# Altium footprint library Connector_Samtec_MicroMate.PcbLib: 76 footprints (part 2 of 5)
Each footprint in its own frame and in the unit in brackets; x right, y up, seen from the top. Pads: shape width x height; smd on the part's side, far side on the other; paste and mask are expansions set on the pad; w line width, h text height; cw(c..) or ccw(c..) is an arc to the next point about the centre after c.
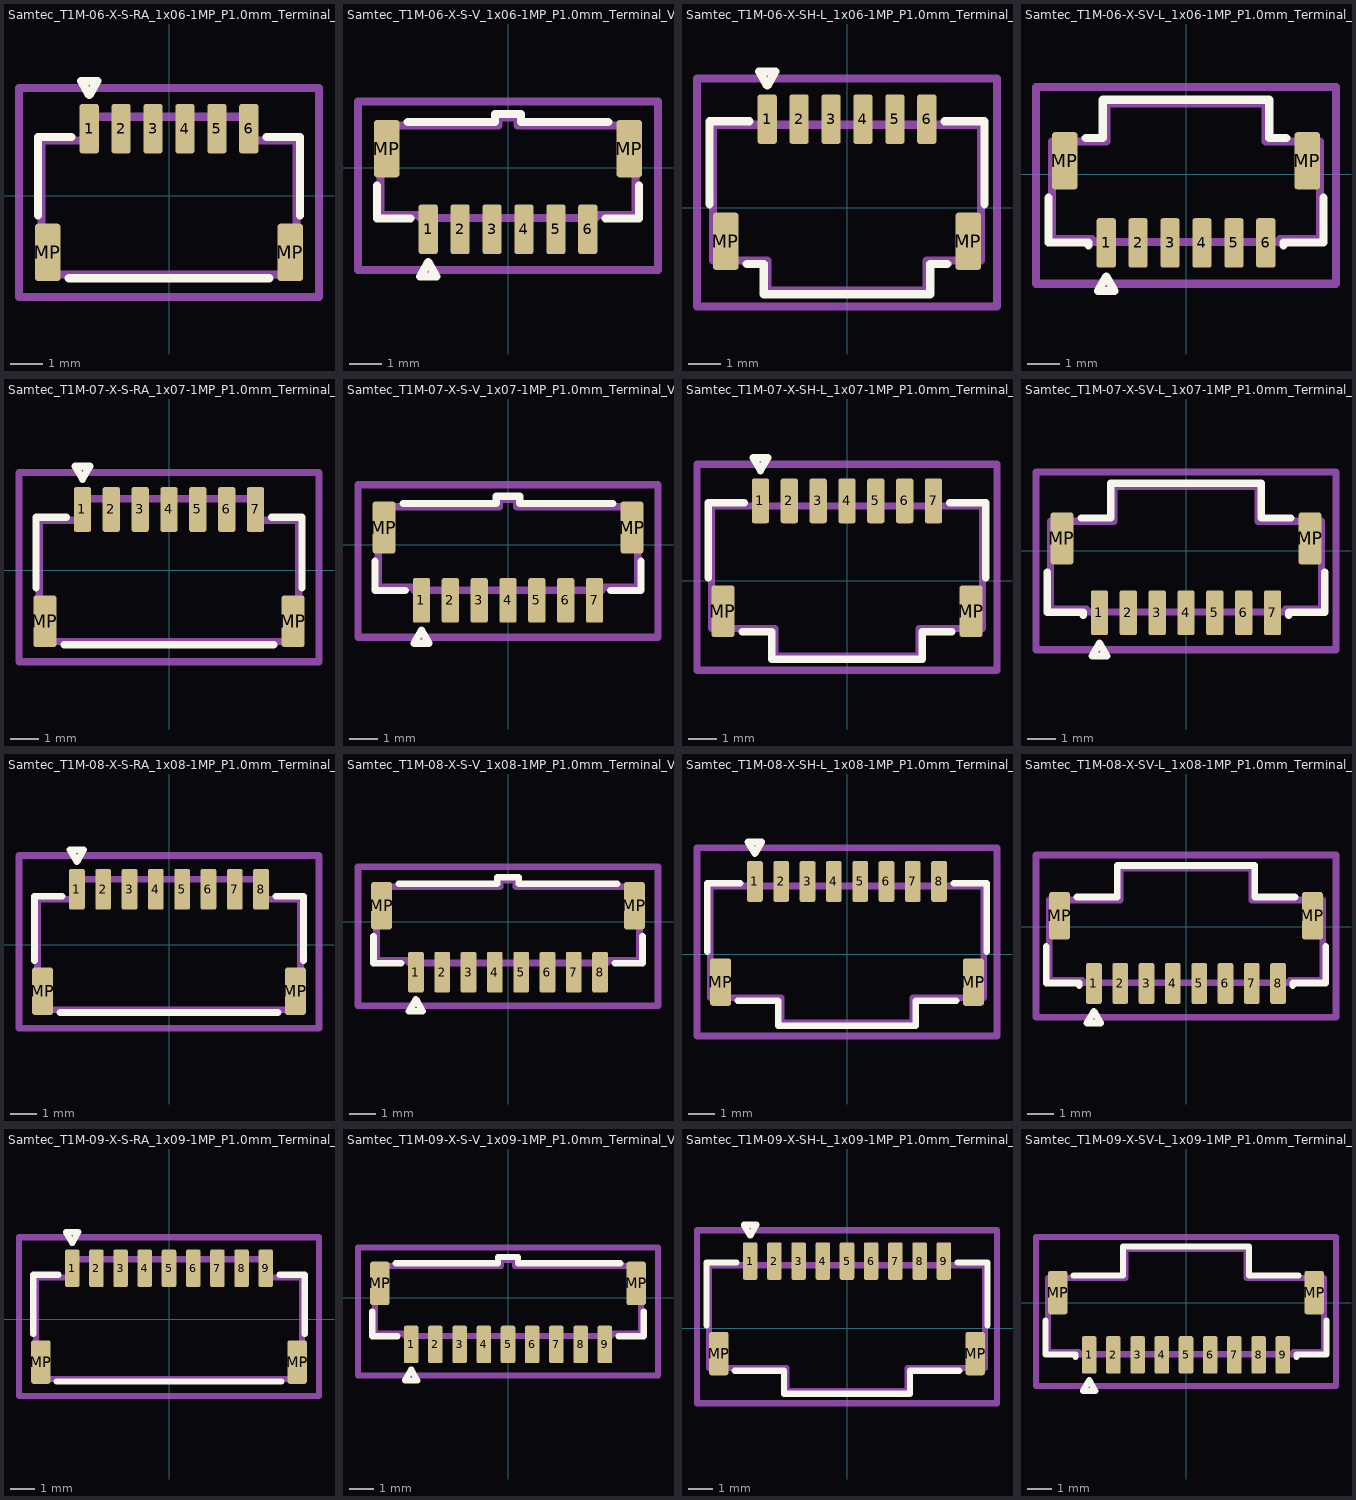
[diagram p1: the footprints below, top view; thin cyan lines are the x and y axes]

## Samtec_T1M-06-X-S-RA_1x06-1MP_P1.0mm_Terminal_Horizontal [mm]
pads (8):
  rrect25% 0.6x1.55 smd: 1(-2.5,2.1) 2(-1.5,2.1) 3(-0.5,2.1) 4(0.5,2.1) 5(1.5,2.1) 6(2.5,2.1)
  rrect25% 0.8x1.8 smd: MP(-3.8,-1.775) MP(3.8,-1.775)
F.SilkS:
  lines w0.254: -4.11,-0.615 -4.11,1.835 -3.06,1.835 ; -3.14,-2.585 3.14,-2.585 ; 3.06,1.835 4.11,1.835 4.11,-0.615 ; -2.76,3.6 -2.24,3.6 -2.5,3.15 -2.76,3.6
Top Assembly:
  lines w0.254: -4,-2.475 4,-2.475 4,1.725 2.6,1.725 2.6,2.475 -2.6,2.475 -2.6,1.725 -4,1.725 -4,-2.475
  text "'.Designator'" at -4.047,-0.84 h1
Top Courtyard:
  lines w0.254: -4.7,-3.18 4.7,-3.18 4.7,3.38 -4.7,3.38 -4.7,-3.18
Top Designator:
  text ".Designator" at -7.618,-0.298 h1.52

## Samtec_T1M-06-X-S-V_1x06-1MP_P1.0mm_Terminal_Vertical [mm]
pads (8):
  rrect25% 0.6x1.55 smd: 1(-2.5,-1.925) 2(-1.5,-1.925) 3(-0.5,-1.925) 4(0.5,-1.925) 5(1.5,-1.925) 6(2.5,-1.925)
  rrect25% 0.8x1.8 smd: MP(-3.8,0.6) MP(3.8,0.6)
F.SilkS:
  lines w0.254: -4.11,-0.56 -4.11,-1.585 -3.06,-1.585 ; -3.14,1.435 -0.41,1.435 -0.41,1.685 0.41,1.685 0.41,1.435 3.14,1.435 ; 3.06,-1.585 4.11,-1.585 4.11,-0.56 ; -2.76,-3.41 -2.24,-3.41 -2.5,-2.96 -2.76,-3.41
Top Assembly:
  lines w0.254: -4,-1.475 -2.75,-1.475 -2.75,-1.575 2.75,-1.575 2.75,-1.475 4,-1.475 4,1.325 0.3,1.325 0.3,1.575 -0.3,1.575 -0.3,1.325 -4,1.325 -4,-1.475
  text "'.Designator'" at -4.047,-0.84 h1
Top Courtyard:
  lines w0.254: -4.7,-3.2 4.7,-3.2 4.7,2.08 -4.7,2.08 -4.7,-3.2
Top Designator:
  text ".Designator" at -7.618,-1.173 h1.52

## Samtec_T1M-06-X-SH-L_1x06-1MP_P1.0mm_Terminal_Horizontal_Latch [mm]
pads (8):
  rrect25% 0.6x1.55 smd: 1(-2.5,2.775) 2(-1.5,2.775) 3(-0.5,2.775) 4(0.5,2.775) 5(1.5,2.775) 6(2.5,2.775)
  rrect25% 0.8x1.8 smd: MP(-3.8,-1.05) MP(3.8,-1.05)
F.SilkS:
  lines w0.254: -4.31,0.11 -4.31,2.71 -3.06,2.71 ; -3.14,-1.76 -2.61,-1.76 -2.61,-2.71 2.61,-2.71 2.61,-1.76 3.14,-1.76 ; 3.06,2.71 4.31,2.71 4.31,0.11 ; -2.76,4.275 -2.24,4.275 -2.5,3.825 -2.76,4.275
Top Assembly:
  lines w0.254: -4.2,-1.65 -2.5,-1.65 -2.5,-2.6 2.5,-2.6 2.5,-1.65 4.2,-1.65 4.2,2.6 -4.2,2.6 -4.2,-1.65
  text "'.Designator'" at -4.047,-0.84 h1
Top Courtyard:
  lines w0.254: -4.7,-3.1 4.7,-3.1 4.7,4.05 -4.7,4.05 -4.7,-3.1
Top Designator:
  text ".Designator" at -7.618,0.08 h1.52

## Samtec_T1M-06-X-SV-L_1x06-1MP_P1.0mm_Terminal_Vertical_Latch [mm]
pads (8):
  rrect25% 0.6x1.55 smd: 1(-2.5,-2.15) 2(-1.5,-2.15) 3(-0.5,-2.15) 4(0.5,-2.15) 5(1.5,-2.15) 6(2.5,-2.15)
  rrect25% 0.8x1.8 smd: MP(-3.8,0.425) MP(3.8,0.425)
F.SilkS:
  lines w0.254: -4.31,-0.735 -4.31,-2.135 -3.06,-2.135 -3.06,-2.235 ; -3.14,1.135 -2.61,1.135 -2.61,2.335 2.61,2.335 2.61,1.135 3.14,1.135 ; 3.06,-2.235 3.06,-2.135 4.31,-2.135 4.31,-0.735 ; -2.76,-3.65 -2.24,-3.65 -2.5,-3.2 -2.76,-3.65
Top Assembly:
  lines w0.254: -4.2,-2.025 -2.95,-2.025 -2.95,-2.125 2.95,-2.125 2.95,-2.025 4.2,-2.025 4.2,1.025 2.5,1.025 2.5,2.225 -2.5,2.225 -2.5,1.025 -4.2,1.025 -4.2,-2.025
  text "'.Designator'" at -4.047,-0.84 h1
Top Courtyard:
  lines w0.254: -4.7,-3.43 4.7,-3.43 4.7,2.73 -4.7,2.73 -4.7,-3.43
Top Designator:
  text ".Designator" at -7.618,-0.968 h1.52

## Samtec_T1M-07-X-S-RA_1x07-1MP_P1.0mm_Terminal_Horizontal [mm]
pads (9):
  rrect25% 0.6x1.55 smd: 1(-3,2.1) 2(-2,2.1) 3(-1,2.1) 4(0,2.1) 5(1,2.1) 6(2,2.1) 7(3,2.1)
  rrect25% 0.8x1.8 smd: MP(-4.3,-1.775) MP(4.3,-1.775)
F.SilkS:
  lines w0.254: -4.61,-0.615 -4.61,1.835 -3.56,1.835 ; -3.64,-2.585 3.64,-2.585 ; 3.56,1.835 4.61,1.835 4.61,-0.615 ; -3.26,3.6 -2.74,3.6 -3,3.15 -3.26,3.6
Top Assembly:
  lines w0.254: -4.5,-2.475 4.5,-2.475 4.5,1.725 3.1,1.725 3.1,2.475 -3.1,2.475 -3.1,1.725 -4.5,1.725 -4.5,-2.475
  text "'.Designator'" at -4.047,-0.84 h1
Top Courtyard:
  lines w0.254: -5.2,-3.18 5.2,-3.18 5.2,3.38 -5.2,3.38 -5.2,-3.18
Top Designator:
  text ".Designator" at -7.618,-0.298 h1.52

## Samtec_T1M-07-X-S-V_1x07-1MP_P1.0mm_Terminal_Vertical [mm]
pads (9):
  rrect25% 0.6x1.55 smd: 1(-3,-1.925) 2(-2,-1.925) 3(-1,-1.925) 4(0,-1.925) 5(1,-1.925) 6(2,-1.925) 7(3,-1.925)
  rrect25% 0.8x1.8 smd: MP(-4.3,0.6) MP(4.3,0.6)
F.SilkS:
  lines w0.254: -4.61,-0.56 -4.61,-1.585 -3.56,-1.585 ; -3.64,1.435 -0.41,1.435 -0.41,1.685 0.41,1.685 0.41,1.435 3.64,1.435 ; 3.56,-1.585 4.61,-1.585 4.61,-0.56 ; -3.26,-3.41 -2.74,-3.41 -3,-2.96 -3.26,-3.41
Top Assembly:
  lines w0.254: -4.5,-1.475 -3.25,-1.475 -3.25,-1.575 3.25,-1.575 3.25,-1.475 4.5,-1.475 4.5,1.325 0.3,1.325 0.3,1.575 -0.3,1.575 -0.3,1.325 -4.5,1.325 -4.5,-1.475
  text "'.Designator'" at -4.047,-0.84 h1
Top Courtyard:
  lines w0.254: -5.2,-3.2 5.2,-3.2 5.2,2.08 -5.2,2.08 -5.2,-3.2
Top Designator:
  text ".Designator" at -7.618,-1.173 h1.52

## Samtec_T1M-07-X-SH-L_1x07-1MP_P1.0mm_Terminal_Horizontal_Latch [mm]
pads (9):
  rrect25% 0.6x1.55 smd: 1(-3,2.775) 2(-2,2.775) 3(-1,2.775) 4(0,2.775) 5(1,2.775) 6(2,2.775) 7(3,2.775)
  rrect25% 0.8x1.8 smd: MP(-4.3,-1.05) MP(4.3,-1.05)
F.SilkS:
  lines w0.254: -4.81,0.11 -4.81,2.71 -3.56,2.71 ; -3.64,-1.76 -2.61,-1.76 -2.61,-2.71 2.61,-2.71 2.61,-1.76 3.64,-1.76 ; 3.56,2.71 4.81,2.71 4.81,0.11 ; -3.26,4.275 -2.74,4.275 -3,3.825 -3.26,4.275
Top Assembly:
  lines w0.254: -4.7,-1.65 -2.5,-1.65 -2.5,-2.6 2.5,-2.6 2.5,-1.65 4.7,-1.65 4.7,2.6 -4.7,2.6 -4.7,-1.65
  text "'.Designator'" at -4.047,-0.84 h1
Top Courtyard:
  lines w0.254: -5.2,-3.1 5.2,-3.1 5.2,4.05 -5.2,4.05 -5.2,-3.1
Top Designator:
  text ".Designator" at -7.618,0.08 h1.52

## Samtec_T1M-07-X-SV-L_1x07-1MP_P1.0mm_Terminal_Vertical_Latch [mm]
pads (9):
  rrect25% 0.6x1.55 smd: 1(-3,-2.15) 2(-2,-2.15) 3(-1,-2.15) 4(0,-2.15) 5(1,-2.15) 6(2,-2.15) 7(3,-2.15)
  rrect25% 0.8x1.8 smd: MP(-4.3,0.425) MP(4.3,0.425)
F.SilkS:
  lines w0.254: -4.81,-0.735 -4.81,-2.135 -3.56,-2.135 -3.56,-2.235 ; -3.64,1.135 -2.61,1.135 -2.61,2.335 2.61,2.335 2.61,1.135 3.64,1.135 ; 3.56,-2.235 3.56,-2.135 4.81,-2.135 4.81,-0.735 ; -3.26,-3.65 -2.74,-3.65 -3,-3.2 -3.26,-3.65
Top Assembly:
  lines w0.254: -4.7,-2.025 -3.45,-2.025 -3.45,-2.125 3.45,-2.125 3.45,-2.025 4.7,-2.025 4.7,1.025 2.5,1.025 2.5,2.225 -2.5,2.225 -2.5,1.025 -4.7,1.025 -4.7,-2.025
  text "'.Designator'" at -4.047,-0.84 h1
Top Courtyard:
  lines w0.254: -5.2,-3.43 5.2,-3.43 5.2,2.73 -5.2,2.73 -5.2,-3.43
Top Designator:
  text ".Designator" at -7.618,-0.968 h1.52

## Samtec_T1M-08-X-S-RA_1x08-1MP_P1.0mm_Terminal_Horizontal [mm]
pads (10):
  rrect25% 0.6x1.55 smd: 1(-3.5,2.1) 2(-2.5,2.1) 3(-1.5,2.1) 4(-0.5,2.1) 5(0.5,2.1) 6(1.5,2.1) 7(2.5,2.1) 8(3.5,2.1)
  rrect25% 0.8x1.8 smd: MP(-4.8,-1.775) MP(4.8,-1.775)
F.SilkS:
  lines w0.254: -5.11,-0.615 -5.11,1.835 -4.06,1.835 ; -4.14,-2.585 4.14,-2.585 ; 4.06,1.835 5.11,1.835 5.11,-0.615 ; -3.76,3.6 -3.24,3.6 -3.5,3.15 -3.76,3.6
Top Assembly:
  lines w0.254: -5,-2.475 5,-2.475 5,1.725 3.6,1.725 3.6,2.475 -3.6,2.475 -3.6,1.725 -5,1.725 -5,-2.475
  text "'.Designator'" at -4.047,-0.84 h1
Top Courtyard:
  lines w0.254: -5.7,-3.18 5.7,-3.18 5.7,3.38 -5.7,3.38 -5.7,-3.18
Top Designator:
  text ".Designator" at -7.618,-0.298 h1.52

## Samtec_T1M-08-X-S-V_1x08-1MP_P1.0mm_Terminal_Vertical [mm]
pads (10):
  rrect25% 0.6x1.55 smd: 1(-3.5,-1.925) 2(-2.5,-1.925) 3(-1.5,-1.925) 4(-0.5,-1.925) 5(0.5,-1.925) 6(1.5,-1.925) 7(2.5,-1.925) 8(3.5,-1.925)
  rrect25% 0.8x1.8 smd: MP(-4.8,0.6) MP(4.8,0.6)
F.SilkS:
  lines w0.254: -5.11,-0.56 -5.11,-1.585 -4.06,-1.585 ; -4.14,1.435 -0.41,1.435 -0.41,1.685 0.41,1.685 0.41,1.435 4.14,1.435 ; 4.06,-1.585 5.11,-1.585 5.11,-0.56 ; -3.76,-3.41 -3.24,-3.41 -3.5,-2.96 -3.76,-3.41
Top Assembly:
  lines w0.254: -5,-1.475 -3.75,-1.475 -3.75,-1.575 3.75,-1.575 3.75,-1.475 5,-1.475 5,1.325 0.3,1.325 0.3,1.575 -0.3,1.575 -0.3,1.325 -5,1.325 -5,-1.475
  text "'.Designator'" at -4.047,-0.84 h1
Top Courtyard:
  lines w0.254: -5.7,-3.2 5.7,-3.2 5.7,2.08 -5.7,2.08 -5.7,-3.2
Top Designator:
  text ".Designator" at -7.618,-1.173 h1.52

## Samtec_T1M-08-X-SH-L_1x08-1MP_P1.0mm_Terminal_Horizontal_Latch [mm]
pads (10):
  rrect25% 0.6x1.55 smd: 1(-3.5,2.775) 2(-2.5,2.775) 3(-1.5,2.775) 4(-0.5,2.775) 5(0.5,2.775) 6(1.5,2.775) 7(2.5,2.775) 8(3.5,2.775)
  rrect25% 0.8x1.8 smd: MP(-4.8,-1.05) MP(4.8,-1.05)
F.SilkS:
  lines w0.254: -5.31,0.11 -5.31,2.71 -4.06,2.71 ; -4.14,-1.76 -2.61,-1.76 -2.61,-2.71 2.61,-2.71 2.61,-1.76 4.14,-1.76 ; 4.06,2.71 5.31,2.71 5.31,0.11 ; -3.76,4.275 -3.24,4.275 -3.5,3.825 -3.76,4.275
Top Assembly:
  lines w0.254: -5.2,-1.65 -2.5,-1.65 -2.5,-2.6 2.5,-2.6 2.5,-1.65 5.2,-1.65 5.2,2.6 -5.2,2.6 -5.2,-1.65
  text "'.Designator'" at -4.047,-0.84 h1
Top Courtyard:
  lines w0.254: -5.7,-3.1 5.7,-3.1 5.7,4.05 -5.7,4.05 -5.7,-3.1
Top Designator:
  text ".Designator" at -7.618,0.08 h1.52

## Samtec_T1M-08-X-SV-L_1x08-1MP_P1.0mm_Terminal_Vertical_Latch [mm]
pads (10):
  rrect25% 0.6x1.55 smd: 1(-3.5,-2.15) 2(-2.5,-2.15) 3(-1.5,-2.15) 4(-0.5,-2.15) 5(0.5,-2.15) 6(1.5,-2.15) 7(2.5,-2.15) 8(3.5,-2.15)
  rrect25% 0.8x1.8 smd: MP(-4.8,0.425) MP(4.8,0.425)
F.SilkS:
  lines w0.254: -5.31,-0.735 -5.31,-2.135 -4.06,-2.135 -4.06,-2.235 ; -4.14,1.135 -2.61,1.135 -2.61,2.335 2.61,2.335 2.61,1.135 4.14,1.135 ; 4.06,-2.235 4.06,-2.135 5.31,-2.135 5.31,-0.735 ; -3.76,-3.65 -3.24,-3.65 -3.5,-3.2 -3.76,-3.65
Top Assembly:
  lines w0.254: -5.2,-2.025 -3.95,-2.025 -3.95,-2.125 3.95,-2.125 3.95,-2.025 5.2,-2.025 5.2,1.025 2.5,1.025 2.5,2.225 -2.5,2.225 -2.5,1.025 -5.2,1.025 -5.2,-2.025
  text "'.Designator'" at -4.047,-0.84 h1
Top Courtyard:
  lines w0.254: -5.7,-3.43 5.7,-3.43 5.7,2.73 -5.7,2.73 -5.7,-3.43
Top Designator:
  text ".Designator" at -7.618,-0.968 h1.52

## Samtec_T1M-09-X-S-RA_1x09-1MP_P1.0mm_Terminal_Horizontal [mm]
pads (11):
  rrect25% 0.6x1.55 smd: 1(-4,2.1) 2(-3,2.1) 3(-2,2.1) 4(-1,2.1) 5(0,2.1) 6(1,2.1) 7(2,2.1) 8(3,2.1) 9(4,2.1)
  rrect25% 0.8x1.8 smd: MP(-5.3,-1.775) MP(5.3,-1.775)
F.SilkS:
  lines w0.254: -5.61,-0.615 -5.61,1.835 -4.56,1.835 ; -4.64,-2.585 4.64,-2.585 ; 4.56,1.835 5.61,1.835 5.61,-0.615 ; -4.26,3.6 -3.74,3.6 -4,3.15 -4.26,3.6
Top Assembly:
  lines w0.254: -5.5,-2.475 5.5,-2.475 5.5,1.725 4.1,1.725 4.1,2.475 -4.1,2.475 -4.1,1.725 -5.5,1.725 -5.5,-2.475
  text "'.Designator'" at -4.047,-0.84 h1
Top Courtyard:
  lines w0.254: -6.2,-3.18 6.2,-3.18 6.2,3.38 -6.2,3.38 -6.2,-3.18
Top Designator:
  text ".Designator" at -7.618,-0.298 h1.52

## Samtec_T1M-09-X-S-V_1x09-1MP_P1.0mm_Terminal_Vertical [mm]
pads (11):
  rrect25% 0.6x1.55 smd: 1(-4,-1.925) 2(-3,-1.925) 3(-2,-1.925) 4(-1,-1.925) 5(0,-1.925) 6(1,-1.925) 7(2,-1.925) 8(3,-1.925) 9(4,-1.925)
  rrect25% 0.8x1.8 smd: MP(-5.3,0.6) MP(5.3,0.6)
F.SilkS:
  lines w0.254: -5.61,-0.56 -5.61,-1.585 -4.56,-1.585 ; -4.64,1.435 -0.41,1.435 -0.41,1.685 0.41,1.685 0.41,1.435 4.64,1.435 ; 4.56,-1.585 5.61,-1.585 5.61,-0.56 ; -4.26,-3.41 -3.74,-3.41 -4,-2.96 -4.26,-3.41
Top Assembly:
  lines w0.254: -5.5,-1.475 -4.25,-1.475 -4.25,-1.575 4.25,-1.575 4.25,-1.475 5.5,-1.475 5.5,1.325 0.3,1.325 0.3,1.575 -0.3,1.575 -0.3,1.325 -5.5,1.325 -5.5,-1.475
  text "'.Designator'" at -4.047,-0.84 h1
Top Courtyard:
  lines w0.254: -6.2,-3.2 6.2,-3.2 6.2,2.08 -6.2,2.08 -6.2,-3.2
Top Designator:
  text ".Designator" at -7.618,-1.173 h1.52

## Samtec_T1M-09-X-SH-L_1x09-1MP_P1.0mm_Terminal_Horizontal_Latch [mm]
pads (11):
  rrect25% 0.6x1.55 smd: 1(-4,2.775) 2(-3,2.775) 3(-2,2.775) 4(-1,2.775) 5(0,2.775) 6(1,2.775) 7(2,2.775) 8(3,2.775) 9(4,2.775)
  rrect25% 0.8x1.8 smd: MP(-5.3,-1.05) MP(5.3,-1.05)
F.SilkS:
  lines w0.254: -5.81,0.11 -5.81,2.71 -4.56,2.71 ; -4.64,-1.76 -2.61,-1.76 -2.61,-2.71 2.61,-2.71 2.61,-1.76 4.64,-1.76 ; 4.56,2.71 5.81,2.71 5.81,0.11 ; -4.26,4.275 -3.74,4.275 -4,3.825 -4.26,4.275
Top Assembly:
  lines w0.254: -5.7,-1.65 -2.5,-1.65 -2.5,-2.6 2.5,-2.6 2.5,-1.65 5.7,-1.65 5.7,2.6 -5.7,2.6 -5.7,-1.65
  text "'.Designator'" at -4.047,-0.84 h1
Top Courtyard:
  lines w0.254: -6.2,-3.1 6.2,-3.1 6.2,4.05 -6.2,4.05 -6.2,-3.1
Top Designator:
  text ".Designator" at -7.618,0.08 h1.52

## Samtec_T1M-09-X-SV-L_1x09-1MP_P1.0mm_Terminal_Vertical_Latch [mm]
pads (11):
  rrect25% 0.6x1.55 smd: 1(-4,-2.15) 2(-3,-2.15) 3(-2,-2.15) 4(-1,-2.15) 5(0,-2.15) 6(1,-2.15) 7(2,-2.15) 8(3,-2.15) 9(4,-2.15)
  rrect25% 0.8x1.8 smd: MP(-5.3,0.425) MP(5.3,0.425)
F.SilkS:
  lines w0.254: -5.81,-0.735 -5.81,-2.135 -4.56,-2.135 -4.56,-2.235 ; -4.64,1.135 -2.61,1.135 -2.61,2.335 2.61,2.335 2.61,1.135 4.64,1.135 ; 4.56,-2.235 4.56,-2.135 5.81,-2.135 5.81,-0.735 ; -4.26,-3.65 -3.74,-3.65 -4,-3.2 -4.26,-3.65
Top Assembly:
  lines w0.254: -5.7,-2.025 -4.45,-2.025 -4.45,-2.125 4.45,-2.125 4.45,-2.025 5.7,-2.025 5.7,1.025 2.5,1.025 2.5,2.225 -2.5,2.225 -2.5,1.025 -5.7,1.025 -5.7,-2.025
  text "'.Designator'" at -4.047,-0.84 h1
Top Courtyard:
  lines w0.254: -6.2,-3.43 6.2,-3.43 6.2,2.73 -6.2,2.73 -6.2,-3.43
Top Designator:
  text ".Designator" at -7.618,-0.968 h1.52